# Altium footprint library Analog_Device.PcbLib: 2 footprints
Each footprint in its own frame and in the unit in brackets; x right, y up, seen from the top. Pads: shape width x height; smd on the part's side, far side on the other; paste and mask are expansions set on the pad; w line width, h text height; cw(c..) or ccw(c..) is an arc to the next point about the centre after c.
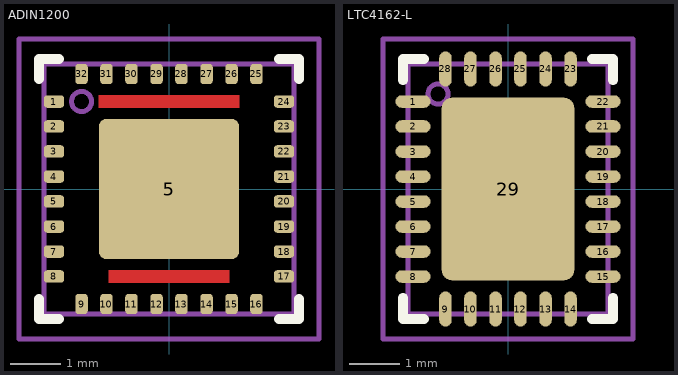
[diagram p0: the footprints below, top view; thin cyan lines are the x and y axes]

## ADIN1200 [mm] "10 Mbps and 100 Mbps Ethernet PHY"
height 0.75
pads (33):
  rrect50% 0.4x0.25 smd: 1(-2.3,1.75) 2(-2.3,1.25) 3(-2.3,0.75) 4(-2.3,0.25) 5(-2.3,-0.25) 6(-2.3,-0.75) 7(-2.3,-1.25) 8(-2.3,-1.75) 17(2.3,-1.75) 18(2.3,-1.25) 19(2.3,-0.75) 20(2.3,-0.25) 21(2.3,0.25) 22(2.3,0.75) 23(2.3,1.25) 24(2.3,1.75)
  rrect10% 2.8x2.8 smd: 5(0,0)
  rrect50% 0.25x0.4 smd: 9(-1.75,-2.3) 10(-1.25,-2.3) 11(-0.75,-2.3) 12(-0.25,-2.3) 13(0.25,-2.3) 14(0.75,-2.3) 15(1.25,-2.3) 16(1.75,-2.3) 25(1.75,2.3) 26(1.25,2.3) 27(0.75,2.3) 28(0.25,2.3) 29(-0.25,2.3) 30(-0.75,2.3) 31(-1.25,2.3) 32(-1.75,2.3)
Top Layer:
  pour cut-out: -1.2,-1.625 1.2,-1.625 1.2,-1.875 -1.2,-1.875
  pour cut-out: -1.4,1.875 1.4,1.875 1.4,1.625 -1.4,1.625
Top Overlay:
  lines w0.2: -2.6,-2.2 -2.6,-2.6 -2.2,-2.6 ; -2.6,2.2 -2.6,2.6 -2.2,2.6 ; 2.2,-2.6 2.6,-2.6 2.6,-2.2 ; 2.2,2.6 2.6,2.6 2.6,2.2
3D Top:
  circle w0.1: c-1.75,1.75 r0.2
  lines w0.1: -2.5,-2.5 -2.5,2.5 2.5,2.5 2.5,-2.5 -2.5,-2.5
Courtyard Top:
  lines w0.1: -0.5,0 0.5,0 ; 0,-0.5 0,0.5 ; -3,-3 -3,3 3,3 3,-3 -3,-3
3D body: height 0.75, standoff 0, extent -2.5,-2.5 2.5,2.5
3D body: height 0.8, standoff 0.75, extent -1.948,1.55 -1.55,1.95

## LTC4162-L [mm] "Lithium-Ion Step-Down Battery Charger  with PowerPath and I2C Telemetry"
height 0.75
pads (29):
  oval 0.7x0.25 smd: 1(-1.9,1.75) 2(-1.9,1.25) 3(-1.9,0.75) 4(-1.9,0.25) 5(-1.9,-0.25) 6(-1.9,-0.75) 7(-1.9,-1.25) 8(-1.9,-1.75) 15(1.9,-1.75) 16(1.9,-1.25) 17(1.9,-0.75) 18(1.9,-0.25) 19(1.9,0.25) 20(1.9,0.75) 21(1.9,1.25) 22(1.9,1.75)
  oval 0.25x0.7 smd: 9(-1.25,-2.4) 10(-0.75,-2.4) 11(-0.25,-2.4) 12(0.25,-2.4) 13(0.75,-2.4) 14(1.25,-2.4) 23(1.25,2.4) 24(0.75,2.4) 25(0.25,2.4) 26(-0.25,2.4) 27(-0.75,2.4) 28(-1.25,2.4)
  rrect15% 2.65x3.65 smd: 29(0,0)
Top Overlay:
  lines w0.2: -2.1,-2.175 -2.1,-2.6 -1.675,-2.6 ; -2.1,2.175 -2.1,2.6 -1.675,2.6 ; 1.675,-2.6 2.1,-2.6 2.1,-2.175 ; 1.675,2.6 2.1,2.6 2.1,2.175
3D Top:
  circle w0.1: c-1.4,1.9 r0.2
  lines w0.1: -2,-2.5 2,-2.5 2,2.5 -2,2.5 -2,-2.5
Courtyard Top:
  lines w0.1: -0.5,0 0.5,0 ; 0,-0.5 0,0.5 ; -2.5,-3 2.5,-3 2.5,3 -2.5,3 -2.5,-3
3D body: height 0.75, standoff 0, extent -2,-2.5 2,2.5
3D body: height 0.8, standoff 0.75, extent -1.598,1.7 -1.2,2.1